# EAGLE library part STPM34 (library project library)
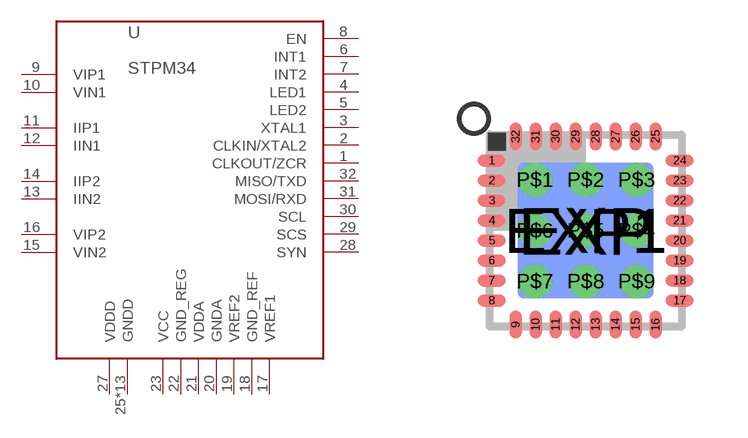
[diagram p1: symbol with the pads of UFQFPN32; footprint UFQFPN32]

Designator prefix U

## STPM34  [UFQFPN32]
1  CLKOUT/ZCR
2  CLKIN/XTAL2
3  XTAL1
4  LED1
5  LED2
6  INT1
7  INT2
8  EN
9  VIP1
10  VIN1
11  IIP1
12  IIN1
13  IIN2
14  IIP2
15  VIN2
16  VIP2
17  VREF1
18  GND_REF
19  VREF2
20  GNDA
21  VDDA
22  GND_REG
23  VCC
25  GNDD
26  GNDD
27  VDDD
28  SYN
29  SCS
30  SCL
31  MOSI/RXD
32  MISO/TXD
EXP  GNDD
EXP1  GNDD
P$1  GNDD
P$2  GNDD
P$3  GNDD
P$4  GNDD
P$5  GNDD
P$6  GNDD
P$7  GNDD
P$8  GNDD
P$9  GNDD

## Footprint UFQFPN32 (pad centres in mm)
32-lead ultra thin fine pitch quad flat no-lead package (5 x 5) Source: Data sheet <http://www.st.com/stonline/products/literature/ds/14771/stm8s105c4.pdf>
smd 0.7 x 0.3: 1 -2.35,1.75; 2 -2.35,1.25; 3 -2.35,0.75; 4 -2.35,0.25; 5 -2.35,-0.25; 6 -2.35,-0.75; 7 -2.35,-1.25; 8 -2.35,-1.75; 17 2.35,-1.75; 18 2.35,-1.25; 19 2.35,-0.75; 20 2.35,-0.25; 21 2.35,0.25; 22 2.35,0.75; 23 2.35,1.25; 24 2.35,1.75
smd 0.3 x 0.7: 9 -1.75,-2.35; 10 -1.25,-2.35; 11 -0.75,-2.35; 12 -0.25,-2.35; 13 0.25,-2.35; 14 0.75,-2.35; 15 1.25,-2.35; 16 1.75,-2.35; 25 1.75,2.35; 26 1.25,2.35; 27 0.75,2.35; 28 0.25,2.35; 29 -0.25,2.35; 30 -0.75,2.35; 31 -1.25,2.35; 32 -1.75,2.35
smd 3.4 x 3.4: EXP 0,0
smd 3.4 x 3.4 bottom: EXP1 0,0
drill 0.33: P$1 -1.27,1.27; P$2 0,1.27; P$3 1.27,1.27; P$4 1.27,0; P$5 0,0; P$6 -1.27,0; P$7 -1.27,-1.27; P$8 0,-1.27; P$9 1.27,-1.27